# Altium integrated library HMTSW-104-X-X-D-X.IntLib: 1 symbol
Pins are listed as number, name and electrical type; pins without a type are passive.

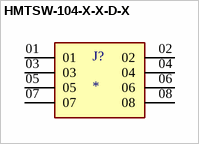
[diagram p0: symbol HMTSW-104-X-X-D-X]

## HMTSW-104-X-X-D-X
designator J?
Connector Header Through Hole 8 position 0.100 (2.54mm); MF: Samtec; MP: HMTSW-104-07-L-D-240-LL; SnapEDA_Link: https://www.snapeda.com/parts/HMTSW-104-07-L-D-240-LL/Samtec+Inc./view-part/?ref=snap; Package: None; Value: *; Check_prices: https://www.snapeda.com/parts/HMTSW-104-07-L-D-240-LL/Samtec+Inc./view-part/?ref=eda
footprint SAMTEC_HMTSW-104-X-X-D-X
pins: 01, 02, 03, 04, 05, 06, 07, 08